# Altium schematic symbol library EEPROM.SchLib: 2 symbols
Pins are listed as number, name and electrical type; pins without a type are passive.

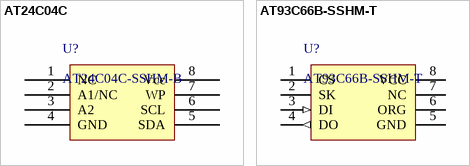
[diagram p0: symbols AT24C04C to AT93C66B-SSHM-T]

## AT24C04C
designator U?, comment AT24C04C-SSHM-B
EEPROM 4K (512x8) 2-WIRE NiPdAu, 1.7V; Manufacturer: Microchip Technology; Component Type: EEPROM; Full Part Number: AT24C04C-SSHM-B; Operating Temperature Range: -40°C ~ 85°C
footprint AT24C04C
footprint UDFN8_2x3MC_MCH
pins: 1 NC, 2 A1/NC, 3 A2, 4 GND, 5 SDA, 6 SCL, 7 WP, 8 Vcc

## AT93C66B-SSHM-T
designator U?
AT93C66 EEPROM; Mfr_Name: Microchip; Copyright: Copyright (C) 2022 Ultra Librarian. All rights reserved.; Manufacturer_Part_Number: AT93C66B-SSHM-T; RefDes: RefDes; Type: DEV
footprint AT24C04C
pins: 1 CS, 2 SK, 3 DI (in), 4 DO (out), 5 GND (power), 6 ORG, 7 NC, 8 VCC (power)